# EAGLE library part DWM100 (library decawave)
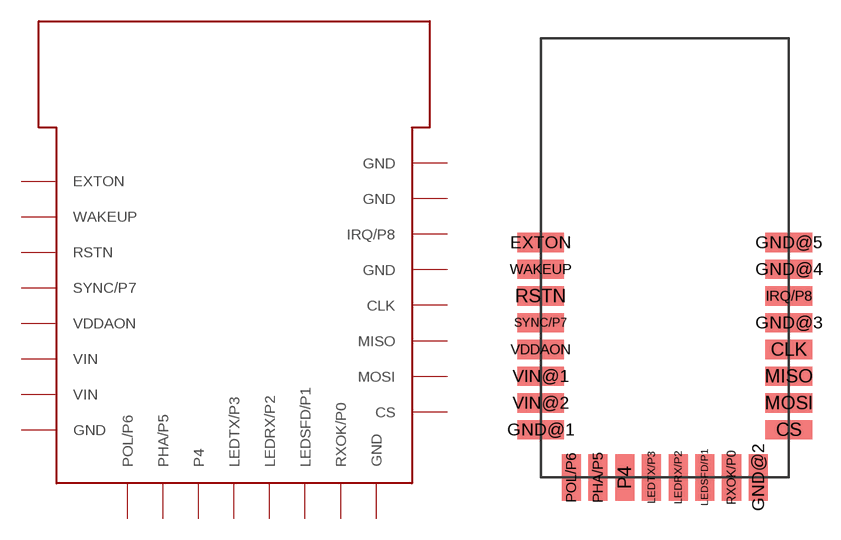
[diagram p0: symbol with the pads of DWMPAC; footprint DWMPAC]

Designator prefix -

## DWM100  [DWMPAC]
CLK  CLK
CS  CS
EXTON  EXTON
GND@1  GND
GND@2  GND
GND@3  GND
GND@4  GND
GND@5  GND
IRQ/P8  IRQ/P8
LEDRX/P2  LEDRX/P2
LEDSFD/P1  LEDSFD/P1
LEDTX/P3  LEDTX/P3
MISO  MISO
MOSI  MOSI
P4  P4
PHA/P5  PHA/P5
POL/P6  POL/P6
RSTN  RSTN
RXOK/P0  RXOK/P0
SYNC/P7  SYNC/P7
VDDAON  VDDAON
VIN@1  VIN
VIN@2  VIN
WAKEUP  WAKEUP

## Footprint DWMPAC (pad centres in mm)
smd 2.45 x 1: CLK 6.5,-4.8; CS 6.5,-9; EXTON -6.5,0.8; GND@1 -6.5,-9; GND@3 6.5,-3.4; GND@4 6.5,-0.6; GND@5 6.5,0.8; IRQ/P8 6.5,-2; MISO 6.5,-6.2; MOSI 6.5,-7.6; RSTN -6.5,-2; SYNC/P7 -6.5,-3.4; VDDAON -6.5,-4.8; VIN@1 -6.5,-6.2; VIN@2 -6.5,-7.6; WAKEUP -6.5,-0.6
smd 1 x 2.45: GND@2 4.9,-11.5; LEDRX/P2 0.7,-11.5; LEDSFD/P1 2.1,-11.5; LEDTX/P3 -0.7,-11.5; P4 -2.1,-11.5; PHA/P5 -3.5,-11.5; POL/P6 -4.9,-11.5; RXOK/P0 3.5,-11.5